# EAGLE library part ARDUINO_UNO_REV3 (library Arduino)
Check availability <https://pricing.snapeda.com/parts/ARDUINO%20UNO%20REV3/Arduino/view-part?ref=eda>
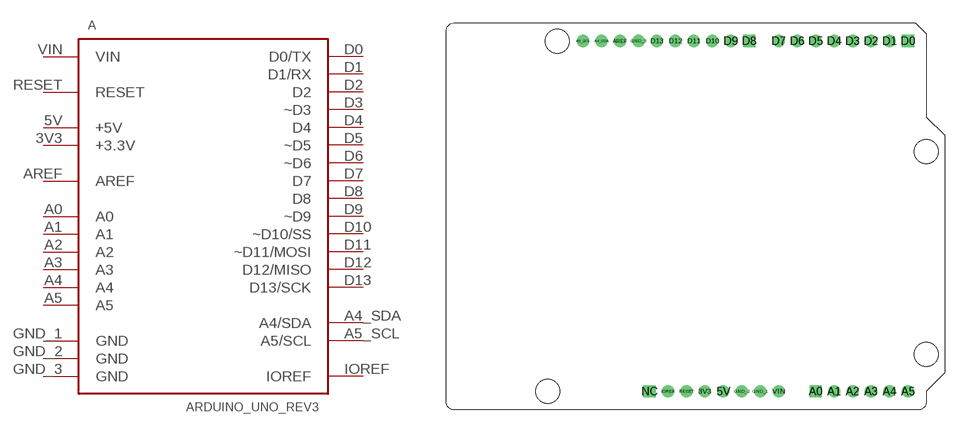
[diagram p1: symbol with the pads of ARDUINO_ARDUINO_UNO_REV3; footprint ARDUINO_ARDUINO_UNO_REV3]

Designator prefix A

## ARDUINO_UNO_REV3  [ARDUINO_ARDUINO_UNO_REV3]
3V3  +3.3V
5V  +5V
A0  A0
A1  A1
A2  A2
A3  A3
A4  A4
A4_SDA  A4/SDA
A5  A5
A5_SCL  A5/SCL
AREF  AREF
D0  D0/TX
D1  D1/RX
D2  D2
D3  ~D3
D4  D4
D5  ~D5
D6  ~D6
D7  D7
D8  D8
D9  ~D9
D10  ~D10/SS
D11  ~D11/MOSI
D12  D12/MISO
D13  D13/SCK
GND_1  GND
GND_2  GND
GND_3  GND
IOREF  IOREF
RESET  RESET
VIN  VIN

## Footprint ARDUINO_ARDUINO_UNO_REV3 (pad centres in mm)
drill 1.016 pad 1.676: 3V3 1.293,-24.109; 5V 3.833,-24.109; A1 19.073,-24.109; A2 21.613,-24.109; A3 24.153,-24.109; A4 26.693,-24.109; A4_SDA -12.931,24.151; A5 29.233,-24.109; A5_SCL -15.471,24.151; AREF -10.391,24.151; D1 26.693,24.151; D2 24.153,24.151; D3 21.613,24.151; D4 19.073,24.151; D5 16.533,24.151; D6 13.993,24.151; D7 11.453,24.151; D9 4.849,24.151; D10 2.309,24.151; D11 -0.231,24.151; D12 -2.771,24.151; D13 -5.311,24.151; GND_1 8.913,-24.109; GND_2 6.373,-24.109; GND_3 -7.851,24.151; IOREF -3.787,-24.109; RESET -1.247,-24.109; VIN 11.453,-24.109
drill 1.016 pad 1.676 square: A0 16.533,-24.109; D0 29.233,24.151; D8 7.389,24.151; NC -6.327,-24.109
hole 3.3 at 31.773,8.911
hole 3.3 at 31.773,-19.029
hole 3.3 at -19.027,24.151
hole 3.3 at -20.297,-24.109